# Altium schematic symbol library USBMiniB.Schlib: 1 symbol
Pins are listed as number, name and electrical type; pins without a type are passive.

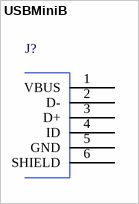
[diagram p0: symbol USBMiniB]

## USBMiniB
designator J?  (value not drawn)
Złącze USB, Mini USB typu B, USB 2.0 OTG, Montaż przewlekany
pins: 1 VBUS, 2 D-, 3 D+, 4 ID, 5 GND, 6 SHIELD